# Altium footprint library jointbar.PCBLIB: 193 footprints (part 6 of 13)
Each footprint in its own frame and in the unit in brackets; x right, y up, seen from the top. Pads: shape width x height; smd on the part's side, far side on the other; paste and mask are expansions set on the pad; w line width, h text height; cw(c..) or ccw(c..) is an arc to the next point about the centre after c.
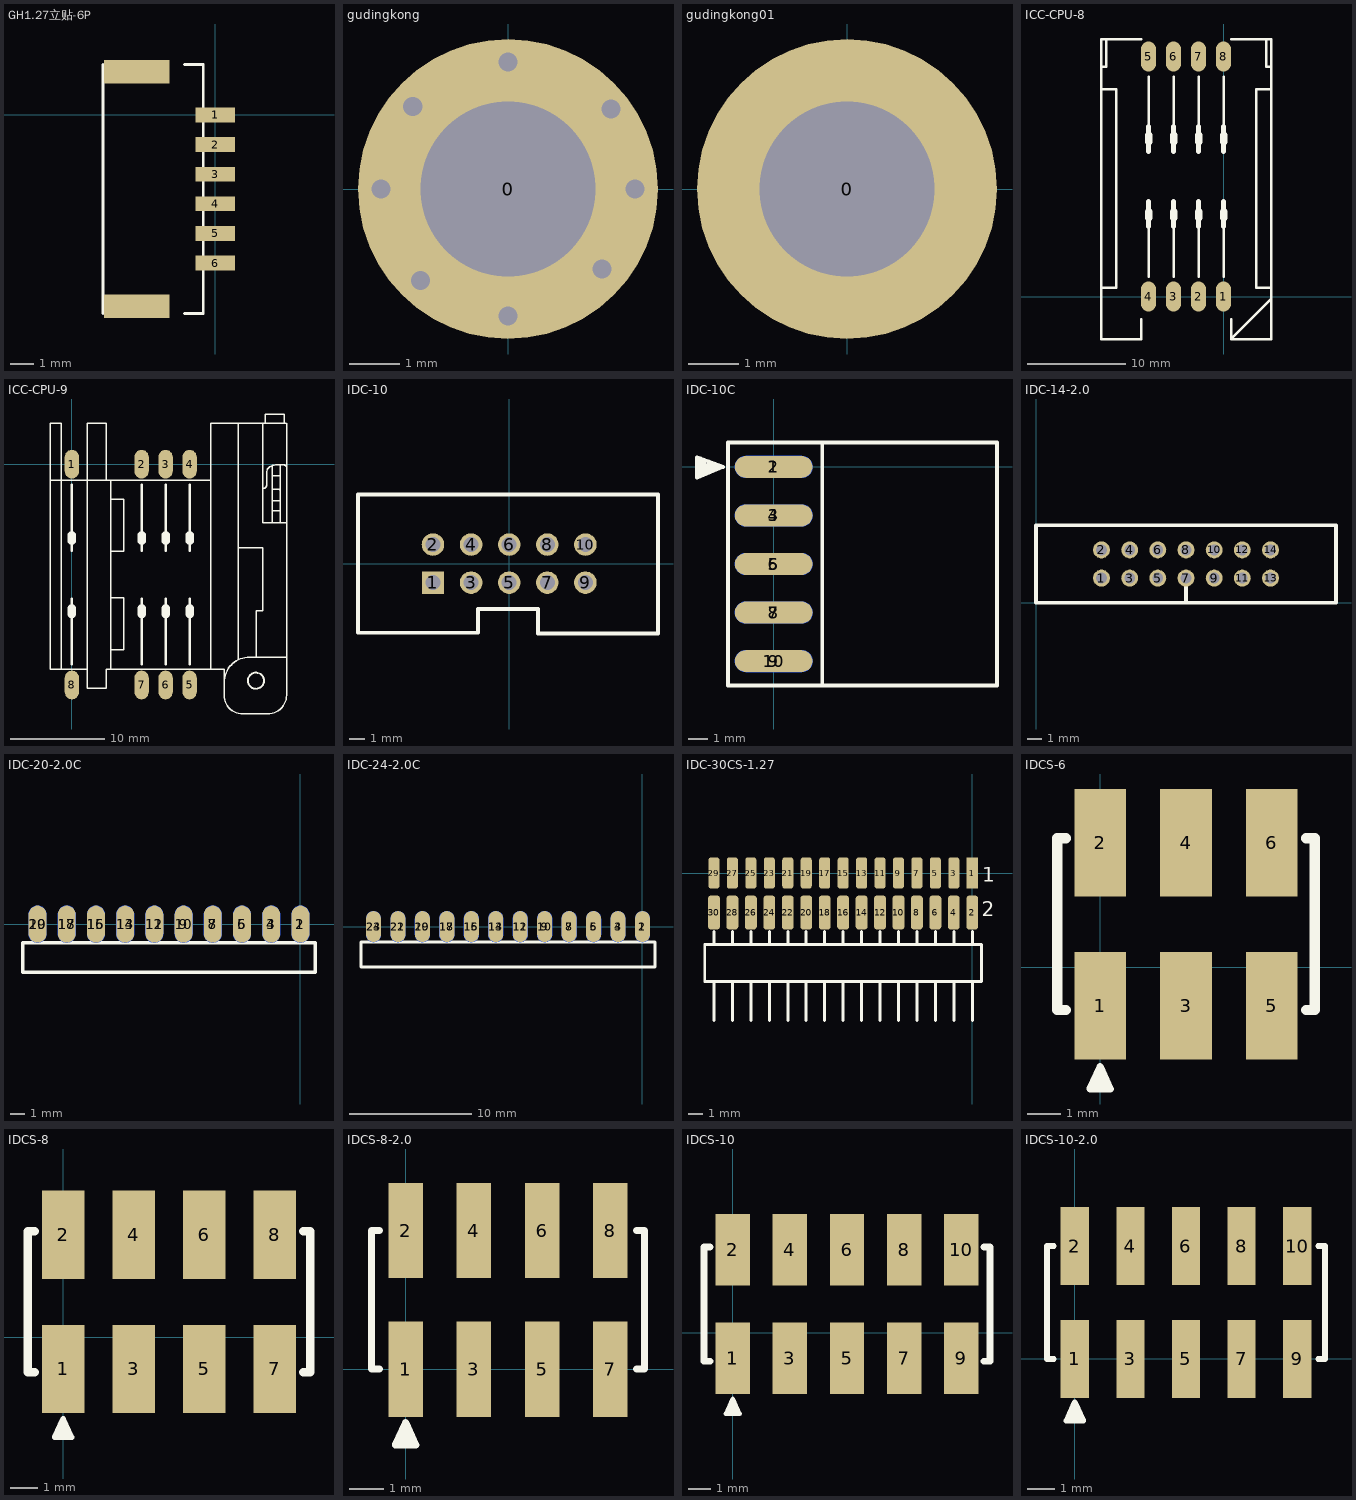
[diagram p5: the footprints below, top view; thin cyan lines are the x and y axes]

## GH1.27立贴-6P [mm]
pads (8):
  rect 1.7x0.635 smd: 1(0,0) 2(0,-1.27) 3(0,-2.54) 4(0,-3.81) 5(0,-5.08) 6(0,-6.35)
  rect 2.8x1 smd: ""(-3.35,-8.2) ""(-3.35,1.85)
TopOverlay:
  lines w0.127: -4.801,-8.509 -4.801,2.159 ; -1.321,-8.509 -0.508,-8.509 -0.508,2.159 -1.321,2.159

## gudingkong [mm]
pads (1):
  round 6 hole 3.5: 0(0,0)
via 1.88,-1.6 diameter 0.762 hole 0.381
via -1.753,-1.829 diameter 0.762 hole 0.381
via 2.057,1.6 diameter 0.762 hole 0.381
via -1.905,1.651 diameter 0.762 hole 0.381
via 2.54,0 diameter 0.762 hole 0.381
via -2.54,0 diameter 0.762 hole 0.381
via 0,-2.54 diameter 0.762 hole 0.381
via 0,2.54 diameter 0.762 hole 0.381

## gudingkong01 [mm]
pads (1):
  round 6 hole 3.5: 0(0,0)

## ICC-CPU-8 [mil]
pads (8):
  oval 60x120 smd: 1(0,0) 2(-100,0) 3(-200,0) 4(-300,0) 5(-300,960) 6(-200,960) 7(-100,960) 8(0,960)
TopOverlay:
  lines w10: -490,35 -430,35 -430,830 -490,830 ; -490,920 -470,920 -470,1030 ; -330,-90 -330,-170 -490,-170 -490,1030 -330,1030 ; -300,80 -300,380 ; -300,580 -300,880 ; -200,80 -200,380 ; -200,580 -200,880 ; -100,80 -100,380 ; -100,580 -100,880 ; 0,80 0,380 ; 0,580 0,880 ; 30,-90 30,-170 ; 30,1030 190,1030 190,-170 30,-170 ; 170,1030 170,920 190,920 ; 190,-10 30,-170 ; 190,35 130,35 130,830 190,830
  lines w20: -300,280 -300,380 ; -300,580 -300,680 ; -200,280 -200,380 ; -200,580 -200,680 ; -100,280 -100,380 ; -100,580 -100,680 ; 0,280 0,380 ; 0,580 0,680
  lines w30: -300,315 -300,340 ; -300,620 -300,645 ; -200,315 -200,340 ; -200,620 -200,645 ; -100,315 -100,340 ; -100,620 -100,645 ; 0,315 0,340 ; 0,620 0,645

## ICC-CPU-9 [mil]
height 7.87
pads (8):
  oval 60x120 smd: 1(0,0) 2(290,0) 3(390,0) 4(490,0) 5(490,-920) 6(390,-920) 7(290,-920) 8(0,-920)
TopOverlay:
  circle w8: c766.74,-902.08 r33.6
  lines w6: -90.02,-66.3 142.71,-66.3 ; 63.97,-853.78 -45.03,-853.78 ; 142.49,-854.08 cw(c141.96,-854.61) 142.71,-854.61 ; 160.7,-853.78 ccw(c160.7,-851.39) 162.39,-853.08 ; 162.08,-66.3 577.39,-66.3 ; 162.39,-854.08 162.39,-136.99 162.39,-66.3 142.71,-66.3 ; 162.39,-773.92 215.49,-773.92 215.49,-556.92 162.39,-556.92 ; 162.39,-363.08 215.49,-363.08 215.49,-146.08 162.39,-146.08 ; 633.9,-927.08 633.9,-909.54 cw(c739.2,-909.54) 664.74,-835.08 668.81,-831 cw(c730.74,-892.93) 730.74,-805.36 741.74,-805.36 891.99,-805.36 cw(c891.99,-807.83) 893.74,-806.08 ccw(c893.02,-806.08) 893.02,-805.35 ; 692.42,-813.8 692.42,-420.71 692.42,169.84 ; 692.42,-349.16 794.79,-349.16 794.79,-610.16 768.79,-610.16 768.79,-805.36 ; 794.79,-243.54 794.79,169.84 ; 794.79,-101.08 797.08,-101.08 ccw(c797.08,-87.42) 806.74,-97.08 ccw(c794.67,-85.01) 811.74,-85.01 811.74,-32.98 cw(c835.64,-32.98) 818.74,-16.08 cw(c850.12,-47.46) 850.12,-3.08 881.67,-3.08 cw(c881.67,-20.15) 893.74,-8.08 ; 794.87,-243.54 893.74,-243.54 ; 805,169.84 805,209 883.74,209 883.74,169.84 ; 835,-243.54 835,-6 ; 835,-195 867,-195 ; 835,-152 864.59,-152 ccw(c864.59,-148.59) 867,-151 ; 835,-105 862.17,-105 cw(c862.17,-111.83) 867,-107 ; 835,-48 864.59,-48 ccw(c864.59,-44.59) 867,-47 ; 838.87,-243.54 ccw(c838.57,-243.24) 839,-243.24 ; 867,-243.54 867,-3.08 ; 893.74,169.84 794.79,169.84 ; 894.23,-962 cw(c815.49,-962) 815.49,-1040.74 cw(c815.3,-1040.55) 815.3,-1040.82 712.64,-1040.82 cw(c712.64,-962.08) 633.9,-962.08 633.9,-855.2 ccw(c630.48,-858.62) 630.48,-853.78 577.39,-853.78 ; 894.23,-961 894.23,169.84 ; -45.03,-853.78 -45.03,169.84 -90.02,169.84 -90.02,-853.78 -45.03,-853.78 ; 142.71,-854.61 142.71,-853.78 577.39,-853.78 ; 142.71,-854.61 142.71,-865.34 142.71,-932.52 63.97,-932.52 63.97,169.84 142.71,169.84 142.71,-49.08 142.71,-66.3 ; 577.39,-853.78 577.39,-66.38 577.39,169.84 791.79,169.84 794.79,169.84
  lines w10: 0,-834.02 0,-560 0,-660 ; 0,-260 0,-360 0,-85.98 ; 290,-834.02 290,-560 290,-660 ; 390,-834.02 390,-560 390,-660 ; 390,-260 390,-360 390,-85.98 ; 490,-834.02 490,-560 490,-660 ; 490,-260 490,-360 490,-85.98 ; 290,-360 290,-85.98 290,-360 ; 290,-360 290,-260 290,-360
  lines w35: 0,-625 0,-600 ; 0,-320 0,-295 ; 290,-625 290,-600 ; 390,-625 390,-600 ; 390,-320 390,-295 ; 490,-625 490,-600 ; 490,-320 490,-295 ; 290,-320 290,-295 290,-320

## IDC-10 [mm]
pads (10):
  rect 1.499x1.499 hole 1: 1(-5.08,-1.27)
  round 1.5 hole 1: 2(-5.08,1.27) 3(-2.54,-1.27) 4(-2.54,1.27) 5(0,-1.27) 6(0,1.27) 7(2.54,-1.27) 8(2.54,1.27) 9(5.08,-1.27) 10(5.08,1.27)
TopOverlay:
  lines w0.254: -10.08,-4.612 -2.08,-4.612 -2.08,-3.017 1.92,-3.017 1.92,-4.652 9.92,-4.652 9.92,4.598 -10.08,4.598 -10.08,-4.612

## IDC-10C [mil]
pads (10):
  oval 160x45 smd: 1(0,0) 3(0,-100) 5(0,-200) 7(0,-300) 9(0,-400)
  oval 160x45 smd far side: 2(0,0) 4(0,-100) 6(0,-200) 8(0,-300) 10(0,-400)
TopOverlay:
  lines w8: -116,4 -123,-6 -126,6 -133,-10 -134,11 -142,-13 -143,11 -151,-17 -151,17 -158,17 -158,20 ; 100,-450 100,50 ; -158,20 -104,0 -158,-22 -158,20 ; -94,-450 460,-450 460,50 -94,50 -94,-450

## IDC-14-2.0 [mm]
pads (14):
  round 1.2 hole 0.762: 1(4.65,1.75) 2(4.65,3.75) 3(6.65,1.75) 4(6.65,3.75) 5(8.65,1.75) 6(8.65,3.75) 7(10.65,1.75) 8(10.65,3.75) 9(12.65,1.75) 10(12.65,3.75) 11(14.65,1.75) 12(14.65,3.75) 13(16.65,1.75) 14(16.65,3.75)
TopOverlay:
  lines w0.254: 10.65,0 10.65,1.27 ; 0,0 21.3,0 21.3,5.5 0,5.5 0,0

## IDC-20-2.0C [mil]
pads (20):
  oval 48x100 smd: 1(0,0) 3(-78.74,0) 5(-157.48,0) 7(-236.22,0) 9(-314.96,0) 11(-393.7,0) 13(-472.44,0) 15(-551.18,0) 17(-629.92,0) 19(-708.66,0)
  oval 48x100 smd far side: 2(0,0) 4(-78.74,0) 6(-157.48,0) 8(-236.22,0) 10(-314.96,0) 12(-393.7,0) 14(-472.44,0) 16(-551.18,0) 18(-629.92,0) 20(-708.66,0)
TopOverlay:
  lines w10: -748.66,-130 40,-130 40,-50 -748.66,-50 -748.66,-130

## IDC-24-2.0C [mil]
pads (24):
  oval 48x100 smd: 1(0,0) 3(-78.74,0) 5(-157.48,0) 7(-236.22,0) 9(-314.96,0) 11(-393.7,0) 13(-472.44,0) 15(-551.18,0) 17(-629.92,0) 19(-708.66,0) 21(-787.4,0) 23(-866.14,0)
  oval 48x100 smd far side: 2(0,0) 4(-78.74,0) 6(-157.48,0) 8(-236.22,0) 10(-314.96,0) 12(-393.7,0) 14(-472.44,0) 16(-551.18,0) 18(-629.92,0) 20(-708.66,0) 22(-787.4,0) 24(-866.14,0)
TopOverlay:
  lines w10: -906.14,-130 40,-130 40,-50 -906.14,-50 -906.14,-130

## IDC-30CS-1.27 [mil]
height 120
pads (30):
  rect 30x85 smd: 1(0,0)
  rrect50% 32x92 smd: 2(0,-107) 4(-50,-107) 6(-100,-107) 8(-150,-107) 10(-200,-107) 12(-250,-107) 14(-300,-107) 16(-350,-107) 18(-400,-107) 20(-450,-107) 22(-500,-107) 24(-550,-107) 26(-600,-107) 28(-650,-107) 30(-700,-107)
  rrect50% 30x85 smd: 3(-50,0) 5(-100,0) 7(-150,0) 9(-200,0) 11(-250,0) 13(-300,0) 15(-350,0) 17(-400,0) 19(-450,0) 21(-500,0) 23(-550,0) 25(-600,0) 27(-650,0) 29(-700,0)
TopOverlay:
  lines w8: -700,-400 -700,-294 ; -700,-194 -700,-159 ; -650,-400 -650,-294 ; -650,-194 -650,-159 ; -600,-400 -600,-294 ; -600,-194 -600,-159 ; -550,-400 -550,-294 ; -550,-194 -550,-159 ; -500,-400 -500,-294 ; -500,-194 -500,-159 ; -450,-400 -450,-294 ; -450,-194 -450,-159 ; -400,-400 -400,-294 ; -400,-194 -400,-159 ; -350,-400 -350,-294 ; -350,-194 -350,-159 ; -300,-400 -300,-294 ; -300,-194 -300,-159 ; -250,-400 -250,-294 ; -250,-194 -250,-159 ; -200,-400 -200,-294 ; -200,-194 -200,-159 ; -150,-400 -150,-294 ; -150,-194 -150,-159 ; -100,-400 -100,-294 ; -100,-194 -100,-159 ; -50,-400 -50,-294 ; -50,-194 -50,-159 ; 0,-400 0,-294 ; 0,-194 0,-159 ; -725,-294 25,-294 25,-194 -725,-194 -725,-294
  text "1" at 27,-24 h40
  text "2" at 26,-117 h40

## IDCS-6 [mil]
pads (6):
  rect 60x125 smd: 1(0,-45) 2(0,145) 3(100,-45) 4(100,145) 5(200,-45) 6(200,145)
TopOverlay:
  lines w8: -12,-142 0,-116 12,-142 -12,-142
  lines w12: -40,-50 -50,-50 -50,150 -40,150 ; 0,-140 0,-125 ; 240,-50 250,-50 250,150 240,150

## IDCS-8 [mil]
pads (8):
  rect 60x125 smd: 1(0,-45) 2(0,145) 3(100,-45) 4(100,145) 5(200,-45) 6(200,145) 7(300,-45) 8(300,145)
TopOverlay:
  lines w8: -12,-142 0,-116 12,-142 -12,-142
  lines w12: -40,-50 -50,-50 -50,150 -40,150 ; 0,-140 0,-125 ; 340,-50 350,-50 350,150 340,150

## IDCS-8-2.0 [mil]
pads (8):
  rect 40x110 smd: 1(0,0) 2(0,160) 3(78.74,0) 4(78.74,160) 5(157.48,0) 6(157.48,160) 7(236.22,0) 8(236.22,160)
TopOverlay:
  lines w8: -30,0 -39.37,0 -39.37,160 -30,160 ; 266.22,0 275.59,0 275.59,160 266.22,160 ; -12,-87.63 12,-87.63 0,-61.63 -12,-87.63
  lines w12: 0,-85.63 0,-70.63

## IDCS-10 [mil]
pads (10):
  rect 60x125 smd: 1(0,-45) 2(0,145) 3(100,-45) 4(100,145) 5(200,-45) 6(200,145) 7(300,-45) 8(300,145) 9(400,-45) 10(400,145)
TopOverlay:
  lines w8: -12,-142 0,-116 12,-142 -12,-142
  lines w12: -40,-50 -50,-50 -50,150 -40,150 ; 0,-140 0,-125 ; 440,-50 450,-50 450,150 440,150

## IDCS-10-2.0 [mil]
pads (10):
  rect 40x110 smd: 1(0,0) 2(0,160) 3(78.74,0) 4(78.74,160) 5(157.48,0) 6(157.48,160) 7(236.22,0) 8(236.22,160) 9(314.96,0) 10(314.96,160)
TopOverlay:
  lines w8: -30,0 -39.37,0 -39.37,160 -30,160 ; 344.96,0 354.33,0 354.33,160 344.96,160 ; -12,-87.63 12,-87.63 0,-61.63 -12,-87.63
  lines w12: 0,-85.63 0,-70.63